# Altium footprint library QUT EESS Footprints.PcbLib: 29 footprints (part 1 of 2)
Each footprint in its own frame and in the unit in brackets; x right, y up, seen from the top. Pads: shape width x height; smd on the part's side, far side on the other; paste and mask are expansions set on the pad; w line width, h text height; cw(c..) or ccw(c..) is an arc to the next point about the centre after c.
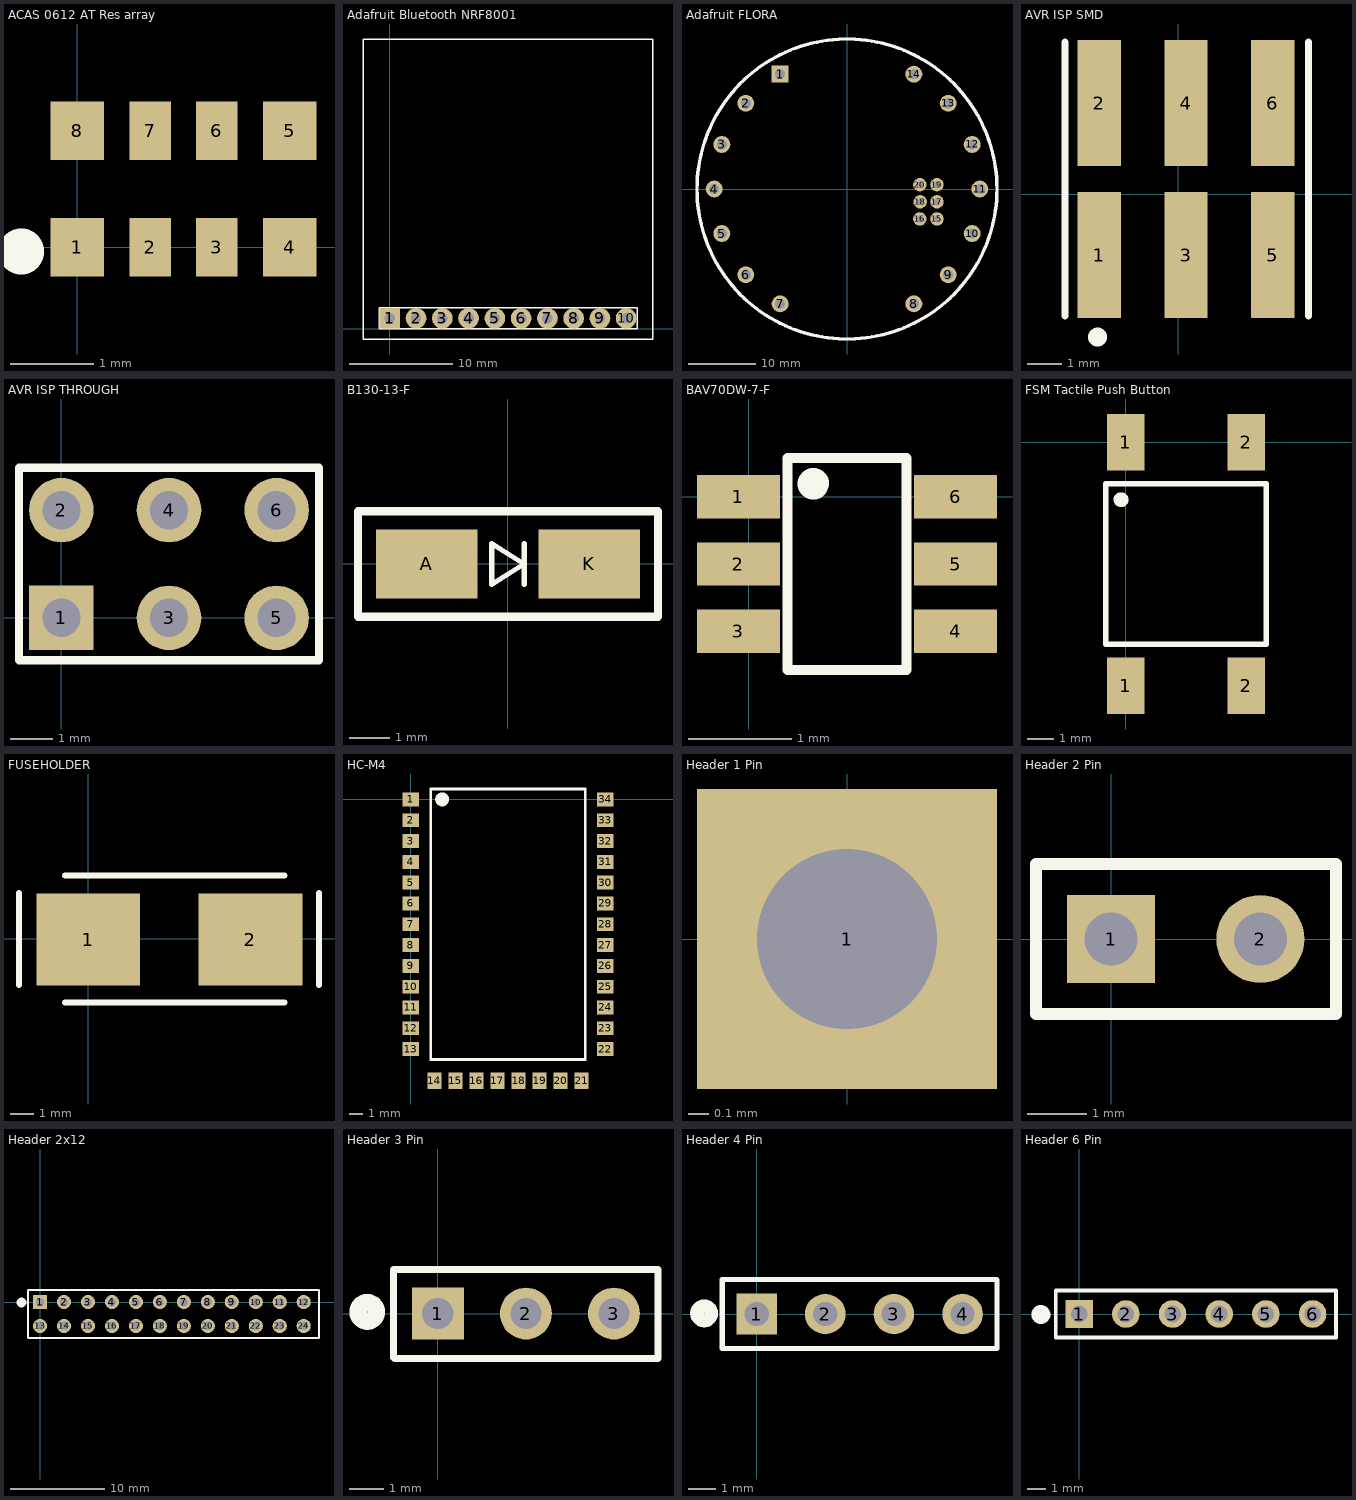
[diagram p0: the footprints below, top view; thin cyan lines are the x and y axes]

## ACAS 0612 AT Res array [mm] "8 Pin Resistor Array"
pads (8):
  rect 0.64x0.7 smd: 1(0,0) 4(2.55,0) 5(2.55,1.4) 8(0,1.4)
  rect 0.5x0.7 smd: 2(0.875,0) 3(1.675,0) 6(1.675,1.4) 7(0.875,1.4)
Top Overlay:
  circle w0.5: c-0.675,-0.05 r0.025
3D body: height 0.45, standoff 0, extent -0.325,0.35 2.875,1.05

## Adafruit Bluetooth NRF8001 [mm] "Breakout for the Adafruit Bluetooth module NRF8001 BLE 4.0"
pads (10):
  rect 2x2 hole 1: 1(0,1)
  round 2 hole 1: 2(2.54,1) 3(5.08,1) 4(7.62,1) 5(10.16,1) 6(12.7,1) 7(15.24,1) 8(17.78,1) 9(20.32,1) 10(22.86,1)
Top Overlay:
  lines w0.127: -2.57,-1 -2.57,28 25.43,28 25.43,-1 -2.57,-1 ; -1,0 -1,2 23.9,2 23.9,0 -1,0
3D body: height 4.8, standoff 2, extent -2.6,-1 25.5,28
3D body: height 9.5, standoff -3.2, extent -1.27,-0.27 1.27,2.27
3D body: height 9.5, standoff -3.2, extent 1.27,-0.27 3.81,2.27
3D body: height 9.5, standoff -3.2, extent 3.81,-0.27 6.35,2.27
3D body: height 9.5, standoff -3.2, extent 6.35,-0.27 8.89,2.27
3D body: height 9.5, standoff -3.2, extent 8.89,-0.27 11.43,2.27
3D body: height 9.5, standoff -3.2, extent 11.43,-0.27 13.97,2.27
3D body: height 9.5, standoff -3.2, extent 13.97,-0.27 16.51,2.27
3D body: height 9.5, standoff -3.2, extent 16.51,-0.27 19.05,2.27
3D body: height 9.5, standoff -3.2, extent 19.05,-0.27 21.59,2.27
3D body: height 9.5, standoff -3.2, extent 21.59,-0.27 24.13,2.27

## Adafruit FLORA [mm] "Breakout for the Adafruit FLORA"
pads (20):
  rect 2.5x2.5 hole 1.5: 1(-9.91,17.02)
  round 2.5 hole 1.5: 2(-14.99,12.7) 3(-18.54,6.6) 4(-19.68,0) 5(-18.54,-6.6) 6(-14.99,-12.7) 7(-9.91,-17.02) 8(9.91,-17.02) 9(14.99,-12.7) 10(18.54,-6.6) 11(19.68,0) 12(18.54,6.6) 13(14.99,12.7) 14(9.91,17.02)
  round 2 hole 1: 15(13.33,-4.44) 16(10.79,-4.44) 17(13.33,-1.9) 18(10.84,-1.9) 19(13.33,0.64) 20(10.79,0.64)
Top Overlay:
  circle w0.5: c0,0 r22.225
3D body: height 9.5, standoff -3.2, extent 9.52,-5.71 12.06,-3.17
3D body: height 9.5, standoff -3.2, extent 12.06,-5.71 14.6,-3.17
3D body: height 9.5, standoff -3.2, extent 12.06,-3.17 14.6,-0.63
3D body: height 9.5, standoff -3.2, extent 9.52,-3.17 12.06,-0.63
3D body: height 9.5, standoff -3.2, extent 9.52,-0.63 12.06,1.91
3D body: height 9.5, standoff -3.2, extent 12.06,-0.63 14.6,1.91
3D body: height 9.5, standoff -3.2, extent -20.95,-1.27 -18.41,1.27
3D body: height 9.5, standoff -3.2, extent -19.81,5.33 -17.27,7.87
3D body: height 9.5, standoff -3.2, extent -16.26,11.43 -13.72,13.97
3D body: height 9.5, standoff -3.2, extent -11.18,15.75 -8.64,18.29
3D body: height 9.5, standoff -3.2, extent 8.64,15.75 11.18,18.29
3D body: height 9.5, standoff -3.2, extent 13.72,11.43 16.26,13.97
3D body: height 9.5, standoff -3.2, extent 17.27,5.33 19.81,7.87
3D body: height 9.5, standoff -3.2, extent 18.41,-1.27 20.95,1.27
3D body: height 9.5, standoff -3.2, extent 17.27,-7.87 19.81,-5.33
3D body: height 9.5, standoff -3.2, extent 13.72,-13.97 16.26,-11.43
3D body: height 9.5, standoff -3.2, extent 8.64,-18.29 11.18,-15.75
3D body: height 9.5, standoff -3.2, extent -11.18,-18.29 -8.64,-15.75
3D body: height 9.5, standoff -3.2, extent -16.26,-13.97 -13.72,-11.43
3D body: height 9.5, standoff -3.2, extent -19.81,-7.87 -17.27,-5.33
3D body: height 3.8, standoff 2.8, extent -22.025,-22.156 22.2,22.156

## AVR ISP SMD [mm] "Standard 2x3 AVR ISP SMD Header"
height 1.45
pads (6):
  rect 1.27x3.68 smd: 1(-2.308,-1.78) 2(-2.308,2.66) 3(0.232,-1.78) 4(0.232,2.66) 5(2.772,-1.78) 6(2.772,2.66)
Top Overlay:
  circle w0.5: c-2.35,-4.175 r0.025
  lines w0.2: -3.302,-3.556 -3.302,4.445 ; 3.81,-3.556 3.81,4.445

## AVR ISP THROUGH [mil] "Standard 2x3 AVR ISP Header"
pads (6):
  rect 60x60 hole 35.43: 1(0,0)
  round 60 hole 35.43: 2(0,100) 3(100,0) 4(100,100) 5(200,0) 6(200,100)
Top Overlay:
  lines w7.87: -39.37,-39.37 239.37,-39.37 ; -39.37,-39.37 239.37,-39.37 ; -39.37,-39.37 -39.37,139.37 239.37,139.37 239.37,-39.37

## B130-13-F [mm]
pads (2):
  rect 2.5x1.7 smd: A(-2,0) K(2,0)
Top Overlay:
  lines w0.127: 0.4,-0.5 0.4,0.5 ; -0.4,-0.5 -0.4,0.5 0.4,0 -0.4,-0.5
  lines w0.2: -3.7,-1.3 3.7,-1.3 3.7,1.3 -3.7,1.3 -3.7,0 -3.7,-1.3
3D body: height 2.15, standoff 0, extent -2.585,-1.1 2.59,1.15

## BAV70DW-7-F [mm]
pads (6):
  rect 0.8x0.42 smd: 1(-0.1,0) 2(-0.1,-0.65) 3(-0.1,-1.3) 4(2,-1.3) 5(2,-0.65) 6(2,0)
Top Overlay:
  lines w0.1: 0.375,-1.675 0.375,0.375 1.525,0.375 1.525,-1.675 0.375,-1.675
  lines w0.254: 0.641,0.105 cw(c0.625,0.125) 0.65,0.129
3D body: height 0.95, standoff 0, extent 0.325,-1.65 1.575,0.35

## FSM Tactile Push Button [mm] "FSM2JSMA Tactile Push Button"
pads (4):
  rect 1.4x2.1 smd: 1(0,-9.1) 1(0,0) 2(4.5,-9.1) 2(4.5,0)
Top Overlay:
  circle w0.5: c-0.175,-2.15 r0.025
  lines w0.2: -0.75,-7.55 -0.75,-1.55 5.25,-1.55 5.25,-7.55 -0.75,-7.55
3D body: height 4.95, standoff 0, extent -0.804,-7.879 5.204,-1.22

## FUSEHOLDER [mm] "OMNI BLOK by littelfuse"
height 3.8
pads (2):
  rect 4.5x4 smd: 1(0,-0.025) 2(7.025,-0.025)
Top Overlay:
  lines w0.254: -3,-2 -3,2 ; -1,-2.75 8.5,-2.75 ; -1,2.75 8.5,2.75 ; 10,-2 10,2
3D body: height 3.8, standoff 0, extent -2.352,-2.127 9.377,2.077

## HC-M4 [mm]
pads (34):
  rect 1.2x1 smd: 1(0,0) 2(0,-1.5) 3(0,-3) 4(0,-4.5) 5(0,-6) 6(0,-7.5) 7(0,-9) 8(0,-10.5) 9(0,-12) 10(0,-13.5) 11(0,-15) 12(0,-16.5) 13(0,-18) 22(14,-18) 23(14,-16.5) 24(14,-15) 25(14,-13.5) 26(14,-12) 27(14,-10.5) 28(14,-9) 29(14,-7.5) 30(14,-6) 31(14,-4.5) 32(14,-3) 33(14,-1.5) 34(14,0)
  rect 1x1.2 smd: 14(1.7,-20.275) 15(3.214,-20.275) 16(4.729,-20.275) 17(6.243,-20.275) 18(7.757,-20.275) 19(9.271,-20.275) 20(10.786,-20.275) 21(12.3,-20.275)
Top Overlay:
  circle w0.5: c2.25,0 r0.25
  lines w0.2: 1.435,-18.75 12.565,-18.75 12.565,0.75 1.435,0.75 1.435,-18.75
3D body: height 2.2, standoff 2.15, extent 2.663,1.1 3.538,1.8
3D body: height 2.2, standoff 2.15, extent 4.213,5.4 5.1,6.1
3D body: height 2.2, standoff 2.15, extent 5.788,1.1 6.663,1.8
3D body: height 2.2, standoff 2.15, extent 7.338,5.4 8.213,6.1
3D body: height 2.2, standoff 2.15, extent 8.913,1.1 9.788,1.8
3D body: height 2.2, standoff 2.15, extent 10.45,5.4 11.325,6.1
3D body: height 2.2, standoff 2.15, extent 1.975,1.1 2.675,6.1
3D body: height 2.2, standoff 2.15, extent 3.533,1.1 4.233,6.1
3D body: height 2.2, standoff 2.15, extent 5.092,1.1 5.792,6.1
3D body: height 2.2, standoff 2.15, extent 6.65,1.1 7.35,6.1
3D body: height 2.2, standoff 2.15, extent 8.208,1.1 8.908,6.1
3D body: height 2.2, standoff 2.15, extent 9.767,1.1 10.467,6.1
3D body: height 2.15, standoff 0, extent 1.45,0.725 12.6,6.6
3D body: height 2.15, standoff 0, extent 1.45,-18.75 12.6,0.725
3D body: height 2.2, standoff 2.15, extent 11.325,0.625 12.025,6.1

## Header 1 Pin [mm] "Single Male Header 1x1"
pads (1):
  rect 1.5x1.5 hole 0.9: 1(0,0)

## Header 2 Pin [mm] "2x1 Header"
pads (2):
  rect 1.5x1.5 hole 0.9: 1(0,0)
  round 1.5 hole 0.9: 2(2.54,0)
Top Overlay:
  lines w0.2: -1.275,-1.275 -1.275,1.275 3.825,1.275 3.825,-1.275 -1.275,-1.275
3D body: height 8.54, standoff -3, extent -1.27,-1.27 3.81,1.27

## Header 2x12 [mm]
pads (24):
  rect 1.5x1.5 hole 0.9: 1(0,0)
  round 1.5 hole 0.9: 2(2.54,0) 3(5.08,0) 4(7.62,0) 5(10.16,0) 6(12.7,0) 7(15.24,0) 8(17.78,0) 9(20.32,0) 10(22.86,0) 11(25.4,0) 12(27.94,0) 13(0,-2.54) 14(2.54,-2.54) 15(5.08,-2.54) 16(7.62,-2.54) 17(10.16,-2.54) 18(12.7,-2.54) 19(15.24,-2.54) 20(17.78,-2.54) 21(20.32,-2.54) 22(22.86,-2.54) 23(25.4,-2.54) 24(27.94,-2.54)
Top Overlay:
  lines w0.2: -1.275,-3.81 29.56,-3.81 29.56,1.27 -1.275,1.27 -1.275,-3.81
  lines w0.5: -1.704,-0.098 cw(c-1.966,-0.05) -1.7,-0.05
3D body: height 8.5, standoff -10.46, extent 13.92,-1.27 29.16,1.27
3D body: height 8.5, standoff -10.46, extent -1.32,-1.27 13.92,1.27
3D body: height 8.5, standoff -10.46, extent 13.92,-3.81 29.16,-1.27
3D body: height 8.5, standoff -10.46, extent -1.32,-3.81 13.92,-1.27

## Header 3 Pin [mm] "3x1 Header"
pads (3):
  rect 1.5x1.5 hole 0.9: 1(0,0)
  round 1.5 hole 0.9: 2(2.54,0) 3(5.08,0)
Top Overlay:
  lines w0.2: -1.275,-1.275 -1.275,1.275 6.35,1.275 6.35,-1.275 ; -1.25,-1.3 6.35,-1.3
  lines w0.5: -1.775,0 cw(c-2.036,0.048) -1.771,0.048
3D body: height 8.5, standoff 0, extent -1.4,-1.4 6.49,1.35

## Header 4 Pin [mm] "Header 4 Pin"
pads (4):
  rect 1.5x1.5 hole 0.9: 1(0,0)
  round 1.5 hole 0.9: 2(2.54,0) 3(5.08,0) 4(7.62,0)
Top Overlay:
  lines w0.2: 8.875,-1.275 -1.275,-1.275 -1.275,1.275 8.875,1.275 8.895,1.255 8.895,-1.275
  lines w0.5: -1.679,-0.023 cw(c-1.941,0.025) -1.675,0.025
3D body: height 8.5, standoff 0, extent -1.39,-1.4 9.04,1.35

## Header 6 Pin [mm] "Header 6 Pin"
pads (6):
  rect 1.5x1.5 hole 0.9: 1(0,0)
  round 1.5 hole 0.9: 2(2.54,0) 3(5.08,0) 4(7.62,0) 5(10.16,0) 6(12.7,0)
Top Overlay:
  lines w0.2: -1.275,-1.275 -1.275,1.275 13.975,1.275 13.975,-1.275 -1.275,-1.275
  lines w0.5: -1.825,-0.075 cw(c-2.086,-0.027) -1.821,-0.027
3D body: height 8.5, standoff -10.46, extent -1.27,-1.27 13.97,1.27